# Altium footprint library 613 0xx 210 21.PcbLib: 18 footprints (part 1 of 2)
Each footprint in its own frame and in the unit in brackets; x right, y up, seen from the top. Pads: shape width x height; smd on the part's side, far side on the other; paste and mask are expansions set on the pad; w line width, h text height; cw(c..) or ccw(c..) is an arc to the next point about the centre after c.
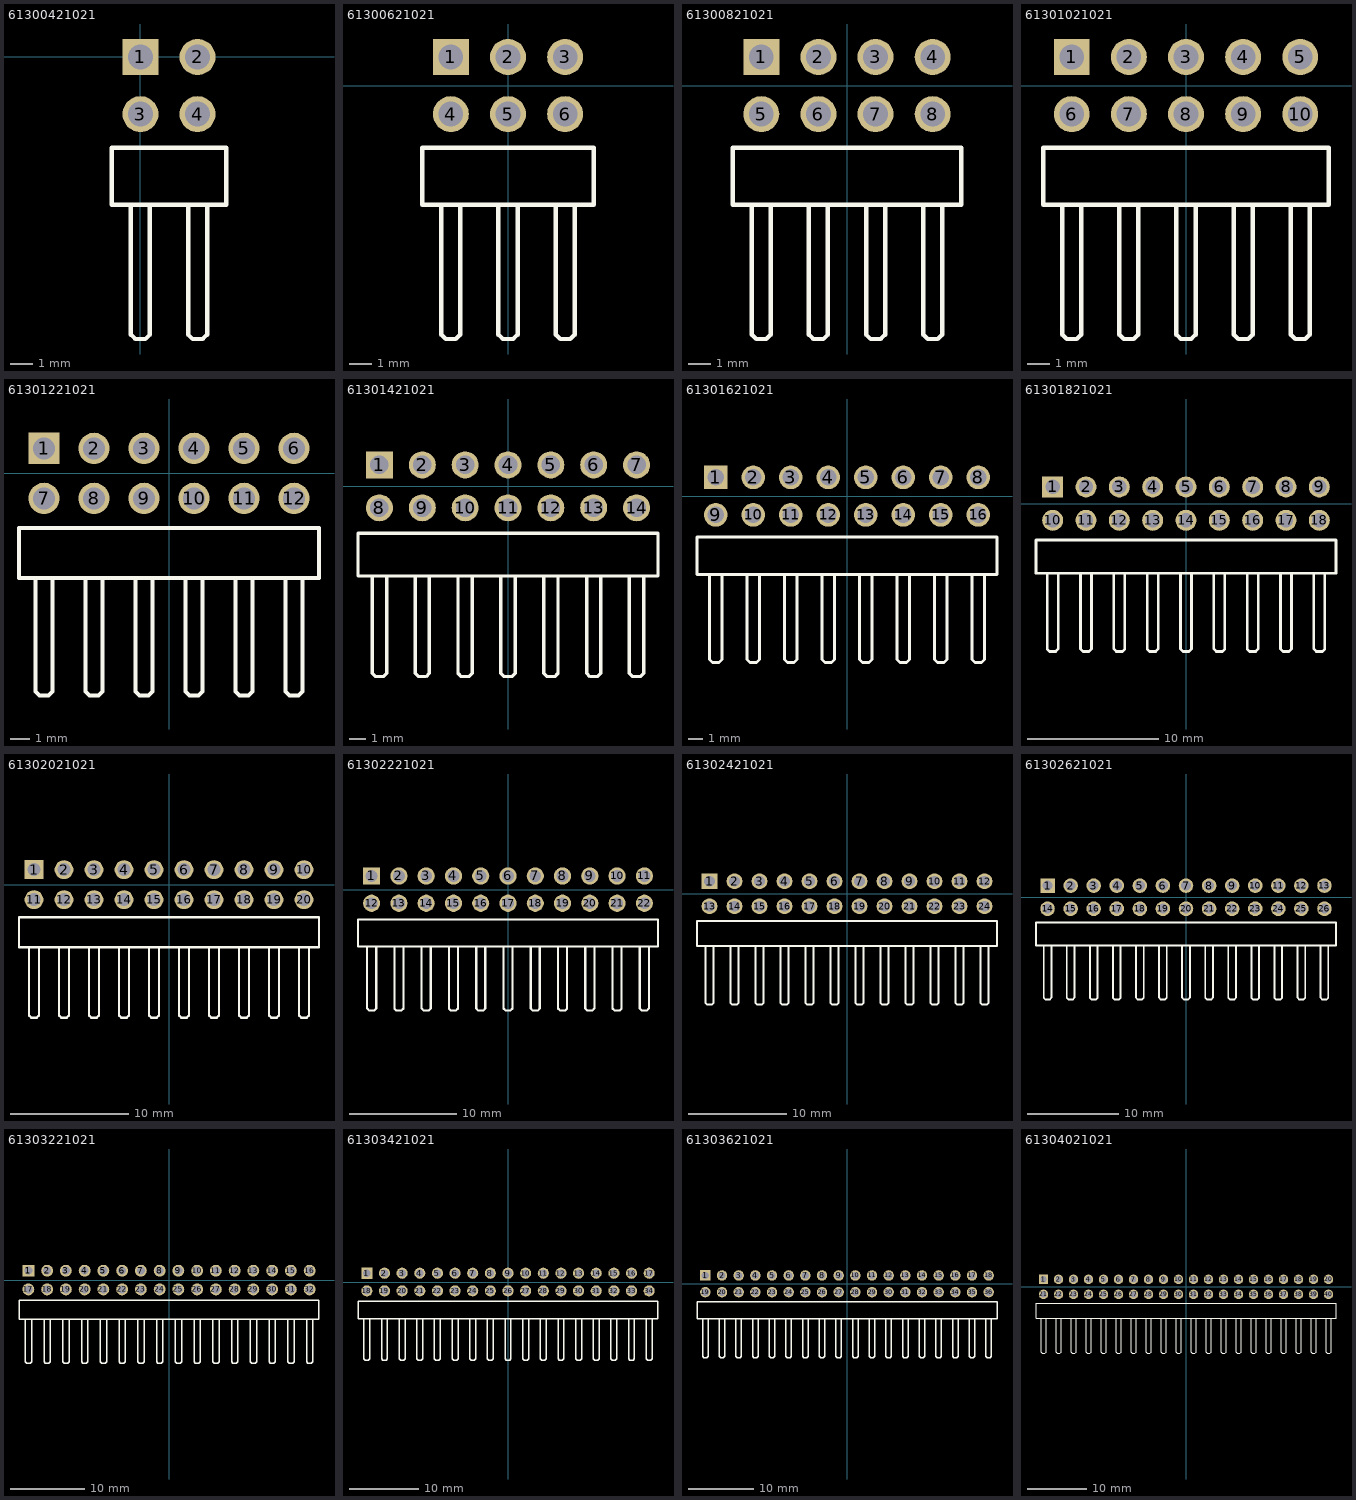
[diagram p0: the footprints below, top view; thin cyan lines are the x and y axes]

## 61300421021 [mm] "4 pins, dual row, right angled, gold plating"
height 5.08
pads (4):
  rect 1.6x1.6 hole 1.1: 1(0,0)
  round 1.6 hole 1.1: 2(2.54,0) 3(0,-2.54) 4(2.54,-2.54)
Top Overlay:
  lines w0.2: -0.423,-6.605 -0.423,-12.34 -0.223,-12.54 0,-12.54 0.223,-12.54 0.423,-12.34 0.423,-6.58 ; 2.117,-6.605 2.117,-12.34 2.317,-12.54 2.54,-12.54 2.763,-12.54 2.963,-12.34 2.963,-6.58 ; -1.27,-6.58 3.81,-6.58 3.81,-4.04 -1.27,-4.04 -1.27,-6.58
3D body "61300421021.stp": height 5.09, standoff -2.99, extent -1.27,-12.646 3.81,0.254

## 61300621021 [mm] "06 pins, dual row, right angled, gold plating"
height 5.08
pads (6):
  rect 1.6x1.6 hole 1.1: 1(-2.54,1.27)
  round 1.6 hole 1.1: 2(0,1.27) 3(2.54,1.27) 4(-2.54,-1.27) 5(0,-1.27) 6(2.54,-1.27)
Top Overlay:
  lines w0.2: -2.963,-5.335 -2.963,-11.07 -2.763,-11.27 -2.54,-11.27 -2.317,-11.27 -2.117,-11.07 -2.117,-5.31 ; -0.423,-5.335 -0.423,-11.07 -0.223,-11.27 0,-11.27 0.223,-11.27 0.423,-11.07 0.423,-5.31 ; 2.117,-5.335 2.117,-11.07 2.317,-11.27 2.54,-11.27 2.763,-11.27 2.963,-11.07 2.963,-5.31 ; -3.81,-5.31 3.81,-5.31 3.81,-2.77 -3.81,-2.77 -3.81,-5.31
3D body "61300621021.stp": height 5.09, standoff -2.99, extent -3.81,-11.376 3.81,1.524

## 61300821021 [mm] "08 pins, dual row, right angled, gold plating"
height 5.08
pads (8):
  rect 1.6x1.6 hole 1.1: 1(-3.81,1.27)
  round 1.6 hole 1.1: 2(-1.27,1.27) 3(1.27,1.27) 4(3.81,1.27) 5(-3.81,-1.27) 6(-1.27,-1.27) 7(1.27,-1.27) 8(3.81,-1.27)
Top Overlay:
  lines w0.2: -4.233,-5.335 -4.233,-11.07 -4.033,-11.27 -3.81,-11.27 -3.587,-11.27 -3.387,-11.07 -3.387,-5.31 ; -1.693,-5.335 -1.693,-11.07 -1.493,-11.27 -1.27,-11.27 -1.047,-11.27 -0.847,-11.07 -0.847,-5.31 ; 0.847,-5.335 0.847,-11.07 1.047,-11.27 1.27,-11.27 1.493,-11.27 1.693,-11.07 1.693,-5.31 ; 3.387,-5.335 3.387,-11.07 3.587,-11.27 3.81,-11.27 4.033,-11.27 4.233,-11.07 4.233,-5.31 ; -5.08,-5.31 5.08,-5.31 5.08,-2.77 -5.08,-2.77 -5.08,-5.31
3D body "61300821021.stp": height 5.09, standoff -2.99, extent -5.08,-11.376 5.08,1.524

## 61301021021 [mm] "10 pins, dual row, right angled, gold plating"
height 5.08
pads (10):
  rect 1.6x1.6 hole 1.1: 1(-5.08,1.27)
  round 1.6 hole 1.1: 2(-2.54,1.27) 3(0,1.27) 4(2.54,1.27) 5(5.08,1.27) 6(-5.08,-1.27) 7(-2.54,-1.27) 8(0,-1.27) 9(2.54,-1.27) 10(5.08,-1.27)
Top Overlay:
  lines w0.2: -5.503,-5.335 -5.503,-11.07 -5.303,-11.27 -5.08,-11.27 -4.857,-11.27 -4.657,-11.07 -4.657,-5.31 ; -2.963,-5.335 -2.963,-11.07 -2.763,-11.27 -2.54,-11.27 -2.317,-11.27 -2.117,-11.07 -2.117,-5.31 ; -0.423,-5.335 -0.423,-11.07 -0.223,-11.27 0,-11.27 0.223,-11.27 0.423,-11.07 0.423,-5.31 ; 2.117,-5.335 2.117,-11.07 2.317,-11.27 2.54,-11.27 2.763,-11.27 2.963,-11.07 2.963,-5.31 ; 4.657,-5.335 4.657,-11.07 4.857,-11.27 5.08,-11.27 5.303,-11.27 5.503,-11.07 5.503,-5.31 ; -6.35,-5.31 6.35,-5.31 6.35,-2.77 -6.35,-2.77 -6.35,-5.31
3D body "61301021021.stp": height 5.09, standoff -2.99, extent -6.35,-11.376 6.35,1.524

## 61301221021 [mm] "12 pins, dual row, right angled, gold plating"
height 5.08
pads (12):
  rect 1.6x1.6 hole 1.1: 1(-6.35,1.27)
  round 1.6 hole 1.1: 2(-3.81,1.27) 3(-1.27,1.27) 4(1.27,1.27) 5(3.81,1.27) 6(6.35,1.27) 7(-6.35,-1.27) 8(-3.81,-1.27) 9(-1.27,-1.27) 10(1.27,-1.27) 11(3.81,-1.27) 12(6.35,-1.27)
Top Overlay:
  lines w0.2: -6.773,-5.335 -6.773,-11.07 -6.573,-11.27 -6.35,-11.27 -6.127,-11.27 -5.927,-11.07 -5.927,-5.31 ; -4.233,-5.335 -4.233,-11.07 -4.033,-11.27 -3.81,-11.27 -3.587,-11.27 -3.387,-11.07 -3.387,-5.31 ; -1.693,-5.335 -1.693,-11.07 -1.493,-11.27 -1.27,-11.27 -1.047,-11.27 -0.847,-11.07 -0.847,-5.31 ; 0.847,-5.335 0.847,-11.07 1.047,-11.27 1.27,-11.27 1.493,-11.27 1.693,-11.07 1.693,-5.31 ; 3.387,-5.335 3.387,-11.07 3.587,-11.27 3.81,-11.27 4.033,-11.27 4.233,-11.07 4.233,-5.31 ; 5.927,-5.335 5.927,-11.07 6.127,-11.27 6.35,-11.27 6.573,-11.27 6.773,-11.07 6.773,-5.31 ; -7.62,-5.31 -7.62,-2.77 7.62,-2.77 7.62,-5.31 -7.62,-5.31
3D body "61301221021.stp": height 5.09, standoff -2.99, extent -7.62,-11.376 7.62,1.524

## 61301421021 [mm] "14 pins, dual row, right angled, gold plating"
height 5.08
pads (14):
  rect 1.6x1.6 hole 1.1: 1(-7.62,1.27)
  round 1.6 hole 1.1: 2(-5.08,1.27) 3(-2.54,1.27) 4(0,1.27) 5(2.54,1.27) 6(5.08,1.27) 7(7.62,1.27) 8(-7.62,-1.27) 9(-5.08,-1.27) 10(-2.54,-1.27) 11(0,-1.27) 12(2.54,-1.27) 13(5.08,-1.27) 14(7.62,-1.27)
Top Overlay:
  lines w0.2: -8.043,-5.335 -8.043,-11.07 -7.843,-11.27 -7.62,-11.27 -7.397,-11.27 -7.197,-11.07 -7.197,-5.31 ; -5.503,-5.335 -5.503,-11.07 -5.303,-11.27 -5.08,-11.27 -4.857,-11.27 -4.657,-11.07 -4.657,-5.31 ; -2.963,-5.335 -2.963,-11.07 -2.763,-11.27 -2.54,-11.27 -2.317,-11.27 -2.117,-11.07 -2.117,-5.31 ; -0.423,-5.335 -0.423,-11.07 -0.223,-11.27 0,-11.27 0.223,-11.27 0.423,-11.07 0.423,-5.31 ; 2.117,-5.335 2.117,-11.07 2.317,-11.27 2.54,-11.27 2.763,-11.27 2.963,-11.07 2.963,-5.31 ; 4.657,-5.335 4.657,-11.07 4.857,-11.27 5.08,-11.27 5.303,-11.27 5.503,-11.07 5.503,-5.31 ; 7.197,-5.335 7.197,-11.07 7.397,-11.27 7.62,-11.27 7.843,-11.27 8.043,-11.07 8.043,-5.31 ; -8.89,-5.31 8.89,-5.31 8.89,-2.77 -8.89,-2.77 -8.89,-5.31
3D body "61301421021.stp": height 5.09, standoff -2.99, extent -8.89,-11.376 8.89,1.524

## 61301621021 [mm] "16 pins, dual row, right angled, gold plating"
height 5.08
pads (16):
  rect 1.6x1.6 hole 1.1: 1(-8.89,1.27)
  round 1.6 hole 1.1: 2(-6.35,1.27) 3(-3.81,1.27) 4(-1.27,1.27) 5(1.27,1.27) 6(3.81,1.27) 7(6.35,1.27) 8(8.89,1.27) 9(-8.89,-1.27) 10(-6.35,-1.27) 11(-3.81,-1.27) 12(-1.27,-1.27) 13(1.27,-1.27) 14(3.81,-1.27) 15(6.35,-1.27) 16(8.89,-1.27)
Top Overlay:
  lines w0.2: -9.313,-5.335 -9.313,-11.07 -9.113,-11.27 -8.89,-11.27 -8.667,-11.27 -8.467,-11.07 -8.467,-5.31 ; -6.773,-5.335 -6.773,-11.07 -6.573,-11.27 -6.35,-11.27 -6.127,-11.27 -5.927,-11.07 -5.927,-5.31 ; -4.233,-5.335 -4.233,-11.07 -4.033,-11.27 -3.81,-11.27 -3.587,-11.27 -3.387,-11.07 -3.387,-5.31 ; -1.693,-5.335 -1.693,-11.07 -1.493,-11.27 -1.27,-11.27 -1.047,-11.27 -0.847,-11.07 -0.847,-5.31 ; 0.847,-5.335 0.847,-11.07 1.047,-11.27 1.27,-11.27 1.493,-11.27 1.693,-11.07 1.693,-5.31 ; 3.387,-5.335 3.387,-11.07 3.587,-11.27 3.81,-11.27 4.033,-11.27 4.233,-11.07 4.233,-5.31 ; 5.927,-5.335 5.927,-11.07 6.127,-11.27 6.35,-11.27 6.573,-11.27 6.773,-11.07 6.773,-5.31 ; 8.467,-5.335 8.467,-11.07 8.667,-11.27 8.89,-11.27 9.113,-11.27 9.313,-11.07 9.313,-5.31 ; -10.16,-5.31 -10.16,-2.77 10.16,-2.77 10.16,-5.31 -10.16,-5.31
3D body "61301621021.stp": height 5.09, standoff -2.99, extent -10.16,-11.376 10.16,1.524

## 61301821021 [mm] "18 pins, dual row, right angled, gold plating"
height 5.08
pads (18):
  rect 1.6x1.6 hole 1.1: 1(-10.16,1.27)
  round 1.6 hole 1.1: 2(-7.62,1.27) 3(-5.08,1.27) 4(-2.54,1.27) 5(0,1.27) 6(2.54,1.27) 7(5.08,1.27) 8(7.62,1.27) 9(10.16,1.27) 10(-10.16,-1.27) 11(-7.62,-1.27) 12(-5.08,-1.27) 13(-2.54,-1.27) 14(0,-1.27) 15(2.54,-1.27) 16(5.08,-1.27) 17(7.62,-1.27) 18(10.16,-1.27)
Top Overlay:
  lines w0.2: -10.583,-5.335 -10.583,-11.07 -10.383,-11.27 -10.16,-11.27 -9.937,-11.27 -9.737,-11.07 -9.737,-5.31 ; -8.043,-5.335 -8.043,-11.07 -7.843,-11.27 -7.62,-11.27 -7.397,-11.27 -7.197,-11.07 -7.197,-5.31 ; -5.503,-5.335 -5.503,-11.07 -5.303,-11.27 -5.08,-11.27 -4.857,-11.27 -4.657,-11.07 -4.657,-5.31 ; -2.963,-5.335 -2.963,-11.07 -2.763,-11.27 -2.54,-11.27 -2.317,-11.27 -2.117,-11.07 -2.117,-5.31 ; -0.423,-5.335 -0.423,-11.07 -0.223,-11.27 0,-11.27 0.223,-11.27 0.423,-11.07 0.423,-5.31 ; 2.117,-5.335 2.117,-11.07 2.317,-11.27 2.54,-11.27 2.763,-11.27 2.963,-11.07 2.963,-5.31 ; 4.657,-5.335 4.657,-11.07 4.857,-11.27 5.08,-11.27 5.303,-11.27 5.503,-11.07 5.503,-5.31 ; 7.197,-5.335 7.197,-11.07 7.397,-11.27 7.62,-11.27 7.843,-11.27 8.043,-11.07 8.043,-5.31 ; 9.737,-5.335 9.737,-11.07 9.937,-11.27 10.16,-11.27 10.383,-11.27 10.583,-11.07 10.583,-5.31 ; -11.43,-5.31 11.43,-5.31 11.43,-2.77 -11.43,-2.77 -11.43,-5.31
3D body "61301821021.stp": height 5.09, standoff -2.99, extent -11.43,-11.376 11.43,1.524

## 61302021021 [mm] "20 pins, dual row, right angled, gold plating"
height 5.08
pads (20):
  rect 1.6x1.6 hole 1.1: 1(-11.43,1.27)
  round 1.6 hole 1.1: 2(-8.89,1.27) 3(-6.35,1.27) 4(-3.81,1.27) 5(-1.27,1.27) 6(1.27,1.27) 7(3.81,1.27) 8(6.35,1.27) 9(8.89,1.27) 10(11.43,1.27) 11(-11.43,-1.27) 12(-8.89,-1.27) 13(-6.35,-1.27) 14(-3.81,-1.27) 15(-1.27,-1.27) 16(1.27,-1.27) 17(3.81,-1.27) 18(6.35,-1.27) 19(8.89,-1.27) 20(11.43,-1.27)
Top Overlay:
  lines w0.2: -11.853,-5.335 -11.853,-11.07 -11.653,-11.27 -11.43,-11.27 -11.207,-11.27 -11.007,-11.07 -11.007,-5.31 ; -9.313,-5.335 -9.313,-11.07 -9.113,-11.27 -8.89,-11.27 -8.667,-11.27 -8.467,-11.07 -8.467,-5.31 ; -6.773,-5.335 -6.773,-11.07 -6.573,-11.27 -6.35,-11.27 -6.127,-11.27 -5.927,-11.07 -5.927,-5.31 ; -4.233,-5.335 -4.233,-11.07 -4.033,-11.27 -3.81,-11.27 -3.587,-11.27 -3.387,-11.07 -3.387,-5.31 ; -1.693,-5.335 -1.693,-11.07 -1.493,-11.27 -1.27,-11.27 -1.047,-11.27 -0.847,-11.07 -0.847,-5.31 ; 0.847,-5.335 0.847,-11.07 1.047,-11.27 1.27,-11.27 1.493,-11.27 1.693,-11.07 1.693,-5.31 ; 3.387,-5.335 3.387,-11.07 3.587,-11.27 3.81,-11.27 4.033,-11.27 4.233,-11.07 4.233,-5.31 ; 5.927,-5.335 5.927,-11.07 6.127,-11.27 6.35,-11.27 6.573,-11.27 6.773,-11.07 6.773,-5.31 ; 8.467,-5.335 8.467,-11.07 8.667,-11.27 8.89,-11.27 9.113,-11.27 9.313,-11.07 9.313,-5.31 ; 11.007,-5.335 11.007,-11.07 11.207,-11.27 11.43,-11.27 11.653,-11.27 11.853,-11.07 11.853,-5.31 ; -12.7,-5.31 -12.7,-2.77 12.7,-2.77 12.7,-5.31 -12.7,-5.31
3D body "61302021021.stp": height 5.09, standoff -2.99, extent -12.7,-11.376 12.7,1.524

## 61302221021 [mm] "22 pins, dual row, right angled, gold plating"
height 5.08
pads (22):
  rect 1.6x1.6 hole 1.1: 1(-12.7,1.27)
  round 1.6 hole 1.1: 2(-10.16,1.27) 3(-7.62,1.27) 4(-5.08,1.27) 5(-2.54,1.27) 6(0,1.27) 7(2.54,1.27) 8(5.08,1.27) 9(7.62,1.27) 10(10.16,1.27) 11(12.7,1.27) 12(-12.7,-1.27) 13(-10.16,-1.27) 14(-7.62,-1.27) 15(-5.08,-1.27) 16(-2.54,-1.27) 17(0,-1.27) 18(2.54,-1.27) 19(5.08,-1.27) 20(7.62,-1.27) 21(10.16,-1.27) 22(12.7,-1.27)
Top Overlay:
  lines w0.2: -13.123,-5.335 -13.123,-11.07 -12.923,-11.27 -12.7,-11.27 -12.477,-11.27 -12.277,-11.07 -12.277,-5.31 ; -10.583,-5.335 -10.583,-11.07 -10.383,-11.27 -10.16,-11.27 -9.937,-11.27 -9.737,-11.07 -9.737,-5.31 ; -8.043,-5.335 -8.043,-11.07 -7.843,-11.27 -7.62,-11.27 -7.397,-11.27 -7.197,-11.07 -7.197,-5.31 ; -5.503,-5.335 -5.503,-11.07 -5.303,-11.27 -5.08,-11.27 -4.857,-11.27 -4.657,-11.07 -4.657,-5.31 ; -2.963,-5.335 -2.963,-11.07 -2.763,-11.27 -2.54,-11.27 -2.317,-11.27 -2.117,-11.07 -2.117,-5.31 ; -0.423,-5.335 -0.423,-11.07 -0.223,-11.27 0,-11.27 0.223,-11.27 0.423,-11.07 0.423,-5.31 ; 2.117,-5.335 2.117,-11.07 2.317,-11.27 2.54,-11.27 2.763,-11.27 2.963,-11.07 2.963,-5.31 ; 4.657,-5.335 4.657,-11.07 4.857,-11.27 5.08,-11.27 5.303,-11.27 5.503,-11.07 5.503,-5.31 ; 7.197,-5.335 7.197,-11.07 7.397,-11.27 7.62,-11.27 7.843,-11.27 8.043,-11.07 8.043,-5.31 ; 9.737,-5.335 9.737,-11.07 9.937,-11.27 10.16,-11.27 10.383,-11.27 10.583,-11.07 10.583,-5.31 ; 12.277,-5.335 12.277,-11.07 12.477,-11.27 12.7,-11.27 12.923,-11.27 13.123,-11.07 13.123,-5.31 ; -13.97,-5.31 13.97,-5.31 13.97,-2.77 -13.97,-2.77 -13.97,-5.31
3D body "61302221021.stp": height 5.09, standoff -2.99, extent -13.97,-11.376 13.97,1.524

## 61302421021 [mm] "24 pins, dual row, right angled, gold plating"
height 5.08
pads (24):
  rect 1.6x1.6 hole 1.1: 1(-13.97,1.27)
  round 1.6 hole 1.1: 2(-11.43,1.27) 3(-8.89,1.27) 4(-6.35,1.27) 5(-3.81,1.27) 6(-1.27,1.27) 7(1.27,1.27) 8(3.81,1.27) 9(6.35,1.27) 10(8.89,1.27) 11(11.43,1.27) 12(13.97,1.27) 13(-13.97,-1.27) 14(-11.43,-1.27) 15(-8.89,-1.27) 16(-6.35,-1.27) 17(-3.81,-1.27) 18(-1.27,-1.27) 19(1.27,-1.27) 20(3.81,-1.27) 21(6.35,-1.27) 22(8.89,-1.27) 23(11.43,-1.27) 24(13.97,-1.27)
Top Overlay:
  lines w0.2: -14.393,-5.335 -14.393,-11.07 -14.193,-11.27 -13.97,-11.27 -13.747,-11.27 -13.547,-11.07 -13.547,-5.31 ; -11.853,-5.335 -11.853,-11.07 -11.653,-11.27 -11.43,-11.27 -11.207,-11.27 -11.007,-11.07 -11.007,-5.31 ; -9.313,-5.335 -9.313,-11.07 -9.113,-11.27 -8.89,-11.27 -8.667,-11.27 -8.467,-11.07 -8.467,-5.31 ; -6.773,-5.335 -6.773,-11.07 -6.573,-11.27 -6.35,-11.27 -6.127,-11.27 -5.927,-11.07 -5.927,-5.31 ; -4.233,-5.335 -4.233,-11.07 -4.033,-11.27 -3.81,-11.27 -3.587,-11.27 -3.387,-11.07 -3.387,-5.31 ; -1.693,-5.335 -1.693,-11.07 -1.493,-11.27 -1.27,-11.27 -1.047,-11.27 -0.847,-11.07 -0.847,-5.31 ; 0.847,-5.335 0.847,-11.07 1.047,-11.27 1.27,-11.27 1.493,-11.27 1.693,-11.07 1.693,-5.31 ; 3.387,-5.335 3.387,-11.07 3.587,-11.27 3.81,-11.27 4.033,-11.27 4.233,-11.07 4.233,-5.31 ; 5.927,-5.335 5.927,-11.07 6.127,-11.27 6.35,-11.27 6.573,-11.27 6.773,-11.07 6.773,-5.31 ; 8.467,-5.335 8.467,-11.07 8.667,-11.27 8.89,-11.27 9.113,-11.27 9.313,-11.07 9.313,-5.31 ; 11.007,-5.335 11.007,-11.07 11.207,-11.27 11.43,-11.27 11.653,-11.27 11.853,-11.07 11.853,-5.31 ; 13.547,-5.335 13.547,-11.07 13.747,-11.27 13.97,-11.27 14.193,-11.27 14.393,-11.07 14.393,-5.31 ; -15.24,-5.31 -15.24,-2.77 15.24,-2.77 15.24,-5.31 -15.24,-5.31
3D body "61302421021.stp": height 5.09, standoff -2.99, extent -15.24,-11.376 15.24,1.524

## 61302621021 [mm] "26 pins, dual row, right angled, gold plating"
height 5.08
pads (26):
  rect 1.6x1.6 hole 1.1: 1(-15.24,1.27)
  round 1.6 hole 1.1: 2(-12.7,1.27) 3(-10.16,1.27) 4(-7.62,1.27) 5(-5.08,1.27) 6(-2.54,1.27) 7(0,1.27) 8(2.54,1.27) 9(5.08,1.27) 10(7.62,1.27) 11(10.16,1.27) 12(12.7,1.27) 13(15.24,1.27) 14(-15.24,-1.27) 15(-12.7,-1.27) 16(-10.16,-1.27) 17(-7.62,-1.27) 18(-5.08,-1.27) 19(-2.54,-1.27) 20(0,-1.27) 21(2.54,-1.27) 22(5.08,-1.27) 23(7.62,-1.27) 24(10.16,-1.27) 25(12.7,-1.27) 26(15.24,-1.27)
Top Overlay:
  lines w0.2: -15.663,-5.335 -15.663,-11.07 -15.463,-11.27 -15.24,-11.27 -15.017,-11.27 -14.817,-11.07 -14.817,-5.31 ; -13.123,-5.335 -13.123,-11.07 -12.923,-11.27 -12.7,-11.27 -12.477,-11.27 -12.277,-11.07 -12.277,-5.31 ; -10.583,-5.335 -10.583,-11.07 -10.383,-11.27 -10.16,-11.27 -9.937,-11.27 -9.737,-11.07 -9.737,-5.31 ; -8.043,-5.335 -8.043,-11.07 -7.843,-11.27 -7.62,-11.27 -7.397,-11.27 -7.197,-11.07 -7.197,-5.31 ; -5.503,-5.335 -5.503,-11.07 -5.303,-11.27 -5.08,-11.27 -4.857,-11.27 -4.657,-11.07 -4.657,-5.31 ; -2.963,-5.335 -2.963,-11.07 -2.763,-11.27 -2.54,-11.27 -2.317,-11.27 -2.117,-11.07 -2.117,-5.31 ; -0.423,-5.335 -0.423,-11.07 -0.223,-11.27 0,-11.27 0.223,-11.27 0.423,-11.07 0.423,-5.31 ; 2.117,-5.335 2.117,-11.07 2.317,-11.27 2.54,-11.27 2.763,-11.27 2.963,-11.07 2.963,-5.31 ; 4.657,-5.335 4.657,-11.07 4.857,-11.27 5.08,-11.27 5.303,-11.27 5.503,-11.07 5.503,-5.31 ; 7.197,-5.335 7.197,-11.07 7.397,-11.27 7.62,-11.27 7.843,-11.27 8.043,-11.07 8.043,-5.31 ; 9.737,-5.335 9.737,-11.07 9.937,-11.27 10.16,-11.27 10.383,-11.27 10.583,-11.07 10.583,-5.31 ; 12.277,-5.335 12.277,-11.07 12.477,-11.27 12.7,-11.27 12.923,-11.27 13.123,-11.07 13.123,-5.31 ; 14.817,-5.335 14.817,-11.07 15.017,-11.27 15.24,-11.27 15.463,-11.27 15.663,-11.07 15.663,-5.31 ; -16.51,-5.31 16.51,-5.31 16.51,-2.77 -16.51,-2.77 -16.51,-5.31
3D body "61302621021.stp": height 5.09, standoff -2.99, extent -16.51,-11.376 16.51,1.524

## 61303221021 [mm] "32 pins, dual row, right angled, gold plating"
height 5.08
pads (32):
  rect 1.6x1.6 hole 1.1: 1(-19.05,1.27)
  round 1.6 hole 1.1: 2(-16.51,1.27) 3(-13.97,1.27) 4(-11.43,1.27) 5(-8.89,1.27) 6(-6.35,1.27) 7(-3.81,1.27) 8(-1.27,1.27) 9(1.27,1.27) 10(3.81,1.27) 11(6.35,1.27) 12(8.89,1.27) 13(11.43,1.27) 14(13.97,1.27) 15(16.51,1.27) 16(19.05,1.27) 17(-19.05,-1.27) 18(-16.51,-1.27) 19(-13.97,-1.27) 20(-11.43,-1.27) 21(-8.89,-1.27) 22(-6.35,-1.27) 23(-3.81,-1.27) 24(-1.27,-1.27) 25(1.27,-1.27) 26(3.81,-1.27) 27(6.35,-1.27) 28(8.89,-1.27) 29(11.43,-1.27) 30(13.97,-1.27) 31(16.51,-1.27) 32(19.05,-1.27)
Top Overlay:
  lines w0.2: -19.473,-5.335 -19.473,-11.07 -19.273,-11.27 -19.05,-11.27 -18.827,-11.27 -18.627,-11.07 -18.627,-5.31 ; -16.933,-5.335 -16.933,-11.07 -16.733,-11.27 -16.51,-11.27 -16.287,-11.27 -16.087,-11.07 -16.087,-5.31 ; -14.393,-5.335 -14.393,-11.07 -14.193,-11.27 -13.97,-11.27 -13.747,-11.27 -13.547,-11.07 -13.547,-5.31 ; -11.853,-5.335 -11.853,-11.07 -11.653,-11.27 -11.43,-11.27 -11.207,-11.27 -11.007,-11.07 -11.007,-5.31 ; -9.313,-5.335 -9.313,-11.07 -9.113,-11.27 -8.89,-11.27 -8.667,-11.27 -8.467,-11.07 -8.467,-5.31 ; -6.773,-5.335 -6.773,-11.07 -6.573,-11.27 -6.35,-11.27 -6.127,-11.27 -5.927,-11.07 -5.927,-5.31 ; -4.233,-5.335 -4.233,-11.07 -4.033,-11.27 -3.81,-11.27 -3.587,-11.27 -3.387,-11.07 -3.387,-5.31 ; -1.693,-5.335 -1.693,-11.07 -1.493,-11.27 -1.27,-11.27 -1.047,-11.27 -0.847,-11.07 -0.847,-5.31 ; 0.847,-5.335 0.847,-11.07 1.047,-11.27 1.27,-11.27 1.493,-11.27 1.693,-11.07 1.693,-5.31 ; 3.387,-5.335 3.387,-11.07 3.587,-11.27 3.81,-11.27 4.033,-11.27 4.233,-11.07 4.233,-5.31 ; 5.927,-5.335 5.927,-11.07 6.127,-11.27 6.35,-11.27 6.573,-11.27 6.773,-11.07 6.773,-5.31 ; 8.467,-5.335 8.467,-11.07 8.667,-11.27 8.89,-11.27 9.113,-11.27 9.313,-11.07 9.313,-5.31 ; 11.007,-5.335 11.007,-11.07 11.207,-11.27 11.43,-11.27 11.653,-11.27 11.853,-11.07 11.853,-5.31 ; 13.547,-5.335 13.547,-11.07 13.747,-11.27 13.97,-11.27 14.193,-11.27 14.393,-11.07 14.393,-5.31 ; 16.087,-5.335 16.087,-11.07 16.287,-11.27 16.51,-11.27 16.733,-11.27 16.933,-11.07 16.933,-5.31 ; 18.627,-5.335 18.627,-11.07 18.827,-11.27 19.05,-11.27 19.273,-11.27 19.473,-11.07 19.473,-5.31 ; -20.32,-5.31 -20.32,-2.77 20.32,-2.77 20.32,-5.31 -20.32,-5.31
3D body "61303221021.stp": height 5.09, standoff -2.99, extent -20.32,-11.376 20.32,1.524

## 61303421021 [mm] "34 pins, dual row, right angled, gold plating"
height 5.08
pads (34):
  rect 1.6x1.6 hole 1.1: 1(-20.32,1.27)
  round 1.6 hole 1.1: 2(-17.78,1.27) 3(-15.24,1.27) 4(-12.7,1.27) 5(-10.16,1.27) 6(-7.62,1.27) 7(-5.08,1.27) 8(-2.54,1.27) 9(0,1.27) 10(2.54,1.27) 11(5.08,1.27) 12(7.62,1.27) 13(10.16,1.27) 14(12.7,1.27) 15(15.24,1.27) 16(17.78,1.27) 17(20.32,1.27) 18(-20.32,-1.27) 19(-17.78,-1.27) 20(-15.24,-1.27) 21(-12.7,-1.27) 22(-10.16,-1.27) 23(-7.62,-1.27) 24(-5.08,-1.27) 25(-2.54,-1.27) 26(0,-1.27) 27(2.54,-1.27) 28(5.08,-1.27) 29(7.62,-1.27) 30(10.16,-1.27) 31(12.7,-1.27) 32(15.24,-1.27) 33(17.78,-1.27) 34(20.32,-1.27)
Top Overlay:
  lines w0.2: -20.743,-5.335 -20.743,-11.07 -20.543,-11.27 -20.32,-11.27 -20.097,-11.27 -19.897,-11.07 -19.897,-5.31 ; -18.203,-5.335 -18.203,-11.07 -18.003,-11.27 -17.78,-11.27 -17.557,-11.27 -17.357,-11.07 -17.357,-5.31 ; -15.663,-5.335 -15.663,-11.07 -15.463,-11.27 -15.24,-11.27 -15.017,-11.27 -14.817,-11.07 -14.817,-5.31 ; -13.123,-5.335 -13.123,-11.07 -12.923,-11.27 -12.7,-11.27 -12.477,-11.27 -12.277,-11.07 -12.277,-5.31 ; -10.583,-5.335 -10.583,-11.07 -10.383,-11.27 -10.16,-11.27 -9.937,-11.27 -9.737,-11.07 -9.737,-5.31 ; -8.043,-5.335 -8.043,-11.07 -7.843,-11.27 -7.62,-11.27 -7.397,-11.27 -7.197,-11.07 -7.197,-5.31 ; -5.503,-5.335 -5.503,-11.07 -5.303,-11.27 -5.08,-11.27 -4.857,-11.27 -4.657,-11.07 -4.657,-5.31 ; -2.963,-5.335 -2.963,-11.07 -2.763,-11.27 -2.54,-11.27 -2.317,-11.27 -2.117,-11.07 -2.117,-5.31 ; -0.423,-5.335 -0.423,-11.07 -0.223,-11.27 0,-11.27 0.223,-11.27 0.423,-11.07 0.423,-5.31 ; 2.117,-5.335 2.117,-11.07 2.317,-11.27 2.54,-11.27 2.763,-11.27 2.963,-11.07 2.963,-5.31 ; 4.657,-5.335 4.657,-11.07 4.857,-11.27 5.08,-11.27 5.303,-11.27 5.503,-11.07 5.503,-5.31 ; 7.197,-5.335 7.197,-11.07 7.397,-11.27 7.62,-11.27 7.843,-11.27 8.043,-11.07 8.043,-5.31 ; 9.737,-5.335 9.737,-11.07 9.937,-11.27 10.16,-11.27 10.383,-11.27 10.583,-11.07 10.583,-5.31 ; 12.277,-5.335 12.277,-11.07 12.477,-11.27 12.7,-11.27 12.923,-11.27 13.123,-11.07 13.123,-5.31 ; 14.817,-5.335 14.817,-11.07 15.017,-11.27 15.24,-11.27 15.463,-11.27 15.663,-11.07 15.663,-5.31 ; 17.357,-5.335 17.357,-11.07 17.557,-11.27 17.78,-11.27 18.003,-11.27 18.203,-11.07 18.203,-5.31 ; 19.897,-5.335 19.897,-11.07 20.097,-11.27 20.32,-11.27 20.543,-11.27 20.743,-11.07 20.743,-5.31 ; -21.59,-5.31 21.59,-5.31 21.59,-2.77 -21.59,-2.77 -21.59,-5.31
3D body "61303421021.stp": height 5.09, standoff -2.99, extent -21.59,-11.376 21.59,1.524

## 61303621021 [mm] "36 pins, dual row, right angled, gold plating"
height 5.08
pads (36):
  rect 1.6x1.6 hole 1.1: 1(-21.59,1.27)
  round 1.6 hole 1.1: 2(-19.05,1.27) 3(-16.51,1.27) 4(-13.97,1.27) 5(-11.43,1.27) 6(-8.89,1.27) 7(-6.35,1.27) 8(-3.81,1.27) 9(-1.27,1.27) 10(1.27,1.27) 11(3.81,1.27) 12(6.35,1.27) 13(8.89,1.27) 14(11.43,1.27) 15(13.97,1.27) 16(16.51,1.27) 17(19.05,1.27) 18(21.59,1.27) 19(-21.59,-1.27) 20(-19.05,-1.27) 21(-16.51,-1.27) 22(-13.97,-1.27) 23(-11.43,-1.27) 24(-8.89,-1.27) 25(-6.35,-1.27) 26(-3.81,-1.27) 27(-1.27,-1.27) 28(1.27,-1.27) 29(3.81,-1.27) 30(6.35,-1.27) 31(8.89,-1.27) 32(11.43,-1.27) 33(13.97,-1.27) 34(16.51,-1.27) 35(19.05,-1.27) 36(21.59,-1.27)
Top Overlay:
  lines w0.2: -22.013,-5.335 -22.013,-11.07 -21.813,-11.27 -21.59,-11.27 -21.367,-11.27 -21.167,-11.07 -21.167,-5.31 ; -19.473,-5.335 -19.473,-11.07 -19.273,-11.27 -19.05,-11.27 -18.827,-11.27 -18.627,-11.07 -18.627,-5.31 ; -16.933,-5.335 -16.933,-11.07 -16.733,-11.27 -16.51,-11.27 -16.287,-11.27 -16.087,-11.07 -16.087,-5.31 ; -14.393,-5.335 -14.393,-11.07 -14.193,-11.27 -13.97,-11.27 -13.747,-11.27 -13.547,-11.07 -13.547,-5.31 ; -11.853,-5.335 -11.853,-11.07 -11.653,-11.27 -11.43,-11.27 -11.207,-11.27 -11.007,-11.07 -11.007,-5.31 ; -9.313,-5.335 -9.313,-11.07 -9.113,-11.27 -8.89,-11.27 -8.667,-11.27 -8.467,-11.07 -8.467,-5.31 ; -6.773,-5.335 -6.773,-11.07 -6.573,-11.27 -6.35,-11.27 -6.127,-11.27 -5.927,-11.07 -5.927,-5.31 ; -4.233,-5.335 -4.233,-11.07 -4.033,-11.27 -3.81,-11.27 -3.587,-11.27 -3.387,-11.07 -3.387,-5.31 ; -1.693,-5.335 -1.693,-11.07 -1.493,-11.27 -1.27,-11.27 -1.047,-11.27 -0.847,-11.07 -0.847,-5.31 ; 0.847,-5.335 0.847,-11.07 1.047,-11.27 1.27,-11.27 1.493,-11.27 1.693,-11.07 1.693,-5.31 ; 3.387,-5.335 3.387,-11.07 3.587,-11.27 3.81,-11.27 4.033,-11.27 4.233,-11.07 4.233,-5.31 ; 5.927,-5.335 5.927,-11.07 6.127,-11.27 6.35,-11.27 6.573,-11.27 6.773,-11.07 6.773,-5.31 ; 8.467,-5.335 8.467,-11.07 8.667,-11.27 8.89,-11.27 9.113,-11.27 9.313,-11.07 9.313,-5.31 ; 11.007,-5.335 11.007,-11.07 11.207,-11.27 11.43,-11.27 11.653,-11.27 11.853,-11.07 11.853,-5.31 ; 13.547,-5.335 13.547,-11.07 13.747,-11.27 13.97,-11.27 14.193,-11.27 14.393,-11.07 14.393,-5.31 ; 16.087,-5.335 16.087,-11.07 16.287,-11.27 16.51,-11.27 16.733,-11.27 16.933,-11.07 16.933,-5.31 ; 18.627,-5.335 18.627,-11.07 18.827,-11.27 19.05,-11.27 19.273,-11.27 19.473,-11.07 19.473,-5.31 ; 21.167,-5.335 21.167,-11.07 21.367,-11.27 21.59,-11.27 21.813,-11.27 22.013,-11.07 22.013,-5.31 ; -22.86,-5.31 -22.86,-2.77 22.86,-2.77 22.86,-5.31 -22.86,-5.31
3D body "61303621021.stp": height 5.09, standoff -2.99, extent -22.86,-11.376 22.86,1.524

## 61304021021 [mm] "40 pins, dual row, right angled, gold plating"
height 5.08
pads (40):
  rect 1.6x1.6 hole 1.1: 1(-24.13,1.27)
  round 1.6 hole 1.1: 2(-21.59,1.27) 3(-19.05,1.27) 4(-16.51,1.27) 5(-13.97,1.27) 6(-11.43,1.27) 7(-8.89,1.27) 8(-6.35,1.27) 9(-3.81,1.27) 10(-1.27,1.27) 11(1.27,1.27) 12(3.81,1.27) 13(6.35,1.27) 14(8.89,1.27) 15(11.43,1.27) 16(13.97,1.27) 17(16.51,1.27) 18(19.05,1.27) 19(21.59,1.27) 20(24.13,1.27) 21(-24.13,-1.27) 22(-21.59,-1.27) 23(-19.05,-1.27) 24(-16.51,-1.27) 25(-13.97,-1.27) 26(-11.43,-1.27) 27(-8.89,-1.27) 28(-6.35,-1.27) 29(-3.81,-1.27) 30(-1.27,-1.27) 31(1.27,-1.27) 32(3.81,-1.27) 33(6.35,-1.27) 34(8.89,-1.27) 35(11.43,-1.27) 36(13.97,-1.27) 37(16.51,-1.27) 38(19.05,-1.27) 39(21.59,-1.27) 40(24.13,-1.27)
Top Overlay:
  lines w0.2: -24.553,-5.335 -24.553,-11.07 -24.353,-11.27 -24.13,-11.27 -23.907,-11.27 -23.707,-11.07 -23.707,-5.31 ; -22.013,-5.335 -22.013,-11.07 -21.813,-11.27 -21.59,-11.27 -21.367,-11.27 -21.167,-11.07 -21.167,-5.31 ; -19.473,-5.335 -19.473,-11.07 -19.273,-11.27 -19.05,-11.27 -18.827,-11.27 -18.627,-11.07 -18.627,-5.31 ; -16.933,-5.335 -16.933,-11.07 -16.733,-11.27 -16.51,-11.27 -16.287,-11.27 -16.087,-11.07 -16.087,-5.31 ; -14.393,-5.335 -14.393,-11.07 -14.193,-11.27 -13.97,-11.27 -13.747,-11.27 -13.547,-11.07 -13.547,-5.31 ; -11.853,-5.335 -11.853,-11.07 -11.653,-11.27 -11.43,-11.27 -11.207,-11.27 -11.007,-11.07 -11.007,-5.31 ; -9.313,-5.335 -9.313,-11.07 -9.113,-11.27 -8.89,-11.27 -8.667,-11.27 -8.467,-11.07 -8.467,-5.31 ; -6.773,-5.335 -6.773,-11.07 -6.573,-11.27 -6.35,-11.27 -6.127,-11.27 -5.927,-11.07 -5.927,-5.31 ; -4.233,-5.335 -4.233,-11.07 -4.033,-11.27 -3.81,-11.27 -3.587,-11.27 -3.387,-11.07 -3.387,-5.31 ; -1.693,-5.335 -1.693,-11.07 -1.493,-11.27 -1.27,-11.27 -1.047,-11.27 -0.847,-11.07 -0.847,-5.31 ; 0.847,-5.335 0.847,-11.07 1.047,-11.27 1.27,-11.27 1.493,-11.27 1.693,-11.07 1.693,-5.31 ; 3.387,-5.335 3.387,-11.07 3.587,-11.27 3.81,-11.27 4.033,-11.27 4.233,-11.07 4.233,-5.31 ; 5.927,-5.335 5.927,-11.07 6.127,-11.27 6.35,-11.27 6.573,-11.27 6.773,-11.07 6.773,-5.31 ; 8.467,-5.335 8.467,-11.07 8.667,-11.27 8.89,-11.27 9.113,-11.27 9.313,-11.07 9.313,-5.31 ; 11.007,-5.335 11.007,-11.07 11.207,-11.27 11.43,-11.27 11.653,-11.27 11.853,-11.07 11.853,-5.31 ; 13.547,-5.335 13.547,-11.07 13.747,-11.27 13.97,-11.27 14.193,-11.27 14.393,-11.07 14.393,-5.31 ; 16.087,-5.335 16.087,-11.07 16.287,-11.27 16.51,-11.27 16.733,-11.27 16.933,-11.07 16.933,-5.31 ; 18.627,-5.335 18.627,-11.07 18.827,-11.27 19.05,-11.27 19.273,-11.27 19.473,-11.07 19.473,-5.31 ; 21.167,-5.335 21.167,-11.07 21.367,-11.27 21.59,-11.27 21.813,-11.27 22.013,-11.07 22.013,-5.31 ; 23.707,-5.335 23.707,-11.07 23.907,-11.27 24.13,-11.27 24.353,-11.27 24.553,-11.07 24.553,-5.31 ; -25.4,-5.31 25.4,-5.31 25.4,-2.77 -25.4,-2.77 -25.4,-5.31
3D body "61304021021.stp": height 5.09, standoff -2.99, extent -25.4,-11.376 25.4,1.524